# EAGLE library part TJA1052I (library GreenFuel)
TJA1052i - Galvanically isolated high-speed CAN transceiver Specification : Type : SOT162-1 Manufacture : NXP Manufacture PN: TJA1052i Certifications: ISO 11898-2:2003 compliant Suitable for use in 12 V and 24 V systems; compatible with 3 V to 5 V microcontrollers Supporting Material TJA1052i Datasheet <https://www.nxp.com/docs/en/data-sheet/TJA1052I.pdf>
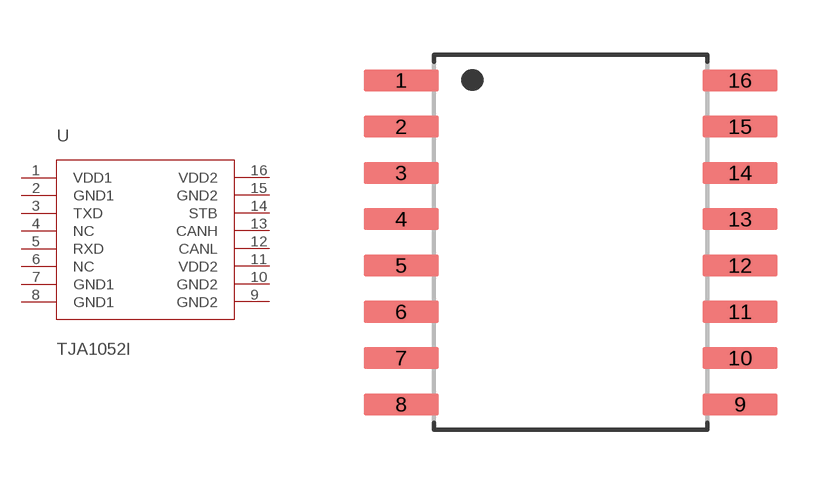
[diagram p2: symbol with the pads of SOT162-1; footprint SOT162-1]

Designator prefix -

## TJA1052I-I  [SOT162-1]
1  VDD1
2  GND1
3  TXD
4  NC
5  RXD
6  NC
7  GND1
8  GND1
9  GND2
10  GND2
11  VDD2
12  CANL
13  CANH
14  STB
15  GND2
16  VDD2

## Footprint SOT162-1 (pad centres in mm)
SO16:plastic small outline package; 16 leads; body width 7.5mm
smd 2.05 x 0.6: 1 -4.655,4.445; 2 -4.655,3.175; 3 -4.655,1.905; 4 -4.655,0.635; 5 -4.655,-0.635; 6 -4.655,-1.905; 7 -4.655,-3.175; 8 -4.655,-4.445; 9 4.655,-4.445; 10 4.655,-3.175; 11 4.655,-1.905; 12 4.655,-0.635; 13 4.655,0.635; 14 4.655,1.905; 15 4.655,3.175; 16 4.655,4.445